# Altium footprint library MotorDriver.PcbLib: 1 footprints
Each footprint in its own frame and in the unit in brackets; x right, y up, seen from the top. Pads: shape width x height; smd on the part's side, far side on the other; paste and mask are expansions set on the pad; w line width, h text height; cw(c..) or ccw(c..) is an arc to the next point about the centre after c.
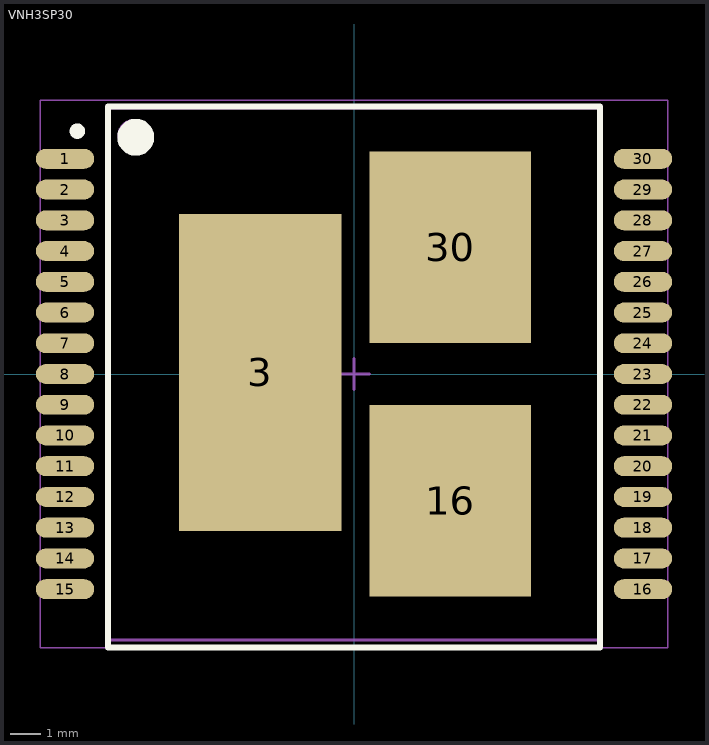
[diagram p0: the footprint, top view; thin cyan lines are the x and y axes]

## VNH3SP30 [mm] "Automotive fully integrated H-bridge motor driver"
height 2.35
pads (33):
  oval 1.9x0.65 smd mask+0.1: 1(-9.4,7) 2(-9.4,6) 3(-9.4,5) 4(-9.4,4) 5(-9.4,3) 6(-9.4,2) 7(-9.4,1) 8(-9.4,0) 9(-9.4,-1) 10(-9.4,-2) 11(-9.4,-3) 12(-9.4,-4) 13(-9.4,-5) 14(-9.4,-6) 15(-9.4,-7) 16(9.4,-7) 17(9.4,-6) 18(9.4,-5) 19(9.4,-4) 20(9.4,-3) 21(9.4,-2) 22(9.4,-1) 23(9.4,0) 24(9.4,1) 25(9.4,2) 26(9.4,3) 27(9.4,4) 28(9.4,5) 29(9.4,6) 30(9.4,7)
  rect 5.3x10.3 smd mask+0.1: 3(-3.05,0.05)
  rect 5.25x6.23 smd mask+0.1: 16(3.125,-4.125) 30(3.125,4.125)
Top Overlay:
  circle w0.25: c-9,7.9 r0.125
  circle w0.6: c-7.1,7.7 r0.3
  lines w0.2: -8,-8.9 -8,8.7 8,8.7 8,-8.9 -8,-8.9
Mechanical 13:
  circle w0.1: c-7.15,7.75 r0.5
  lines w0.1: -8.05,-8.65 -8.05,8.65 8.05,8.65 8.05,-8.65 -8.05,-8.65
Mechanical 15:
  lines w0.05: -10.2,-8.9 -10.2,8.9 10.2,8.9 10.2,-8.9 -10.2,-8.9
  lines w0.1: -0.5,0 0.5,0 ; 0,-0.5 0,0.5
3D body "SW3dPS-PowSO30-ST.STEP": height 2.37, standoff -0.09, extent -9.5,-8.6 9.5,8.6